# Altium footprint library SWTPcbLib1.PcbLib: 17 footprints (part 1 of 2)
Each footprint in its own frame and in the unit in brackets; x right, y up, seen from the top. Pads: shape width x height; smd on the part's side, far side on the other; paste and mask are expansions set on the pad; w line width, h text height; cw(c..) or ccw(c..) is an arc to the next point about the centre after c.
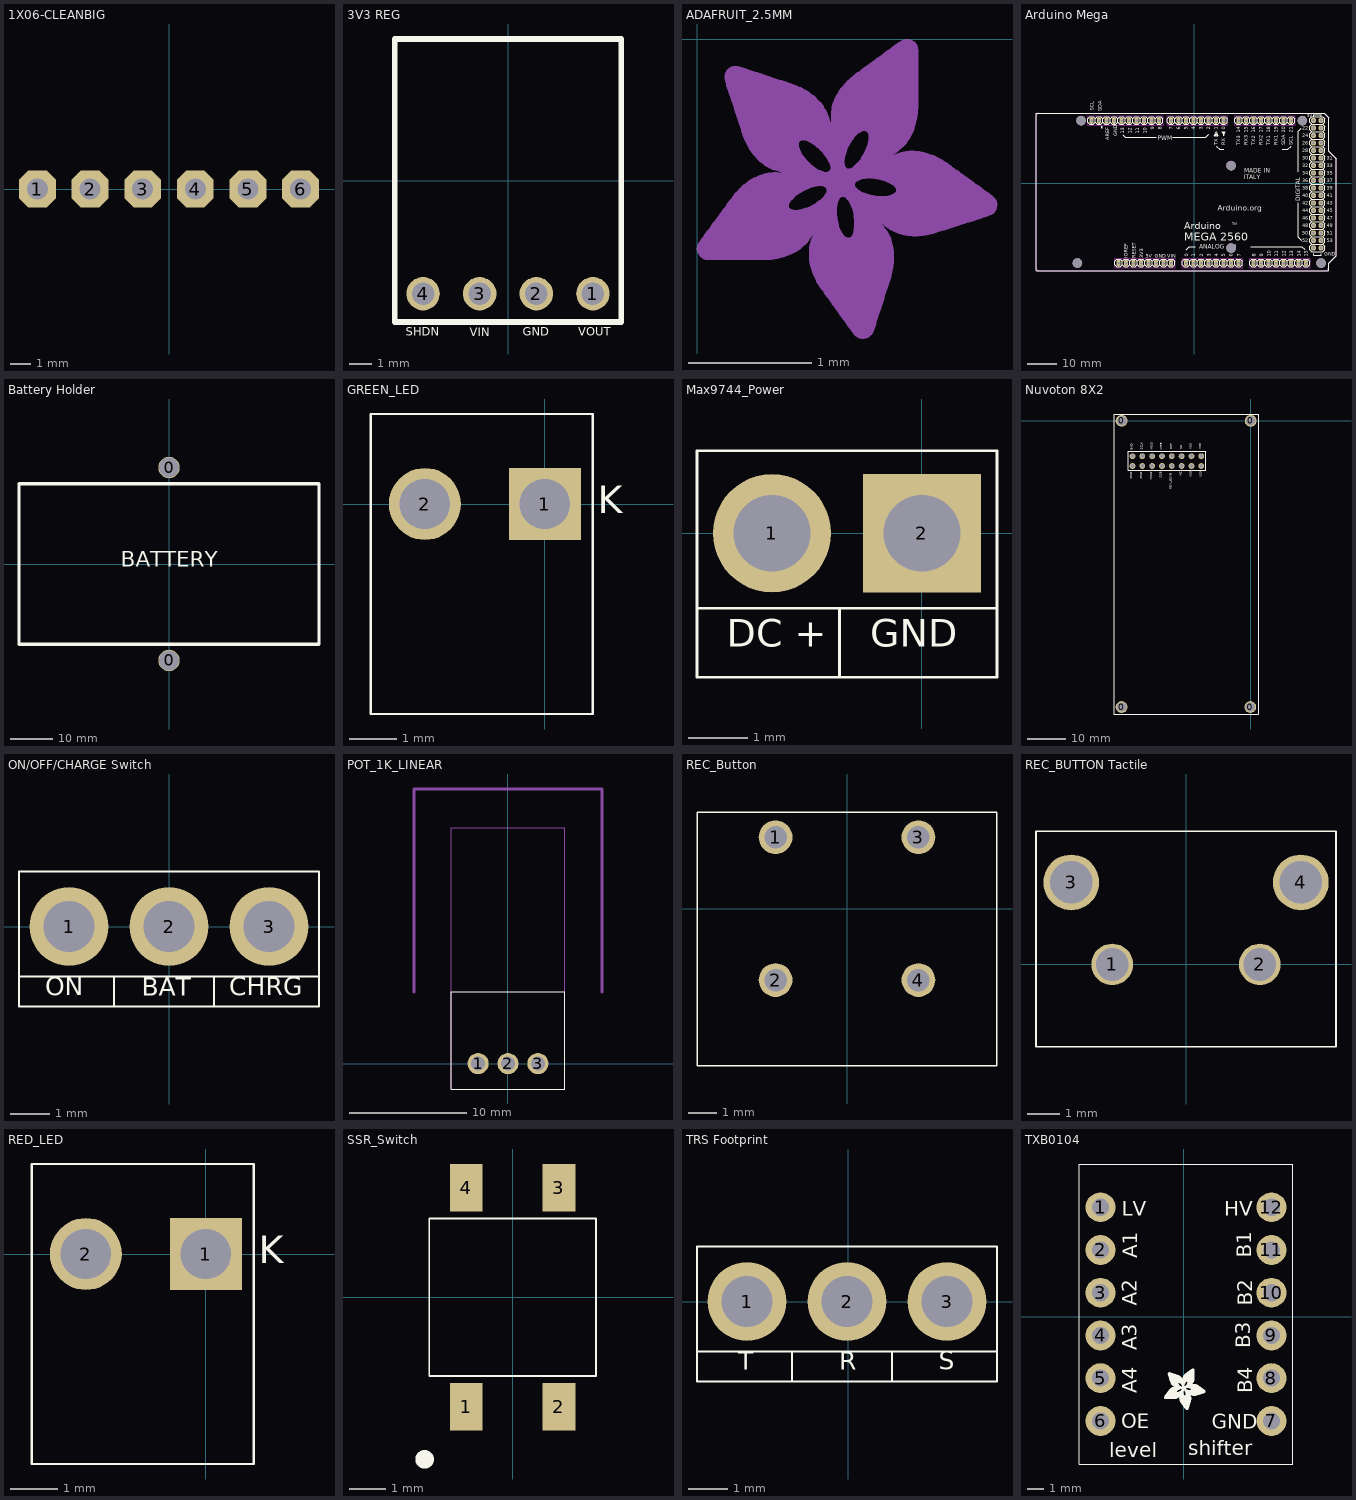
[diagram p0: the footprints below, top view; thin cyan lines are the x and y axes]

## 1X06-CLEANBIG [mil] "1X06-CLEANBIG"
pads (6):
  oct 70x70 / inner round 64.67 / far side oct 70x70 hole 40: 1(-250,0) 2(-150,0) 3(-50,0) 4(50,0) 5(150,0) 6(250,0)
Mechanical 3:
  region: 240,-10 240,10 260,10 260,-10
  region: -260,-10 -260,10 -240,10 -240,-10
  region: -160,-10 -160,10 -140,10 -140,-10
  region: -60,-10 -60,10 -40,10 -40,-10
  region: 40,-10 40,10 60,10 60,-10
  region: 140,-10 140,10 160,10 160,-10

## 3V3 REG [mm] "Pololu 3V3 Regulator 600mA"
pads (4):
  round 1.5 hole 1.016: 1(3.81,-5.08) 2(1.27,-5.08) 3(-1.27,-5.08) 4(-3.81,-5.08)
Top Overlay:
  lines w0.254: -5.08,-6.35 5.08,-6.35 5.08,6.35 -5.08,6.35 -5.08,0 -5.08,-6.35
  text "VOUT" at 3.156,-7.105 h0.64
  text "VIN" at -1.718,-7.112 h0.64
  text "GND" at 0.67,-7.105 h0.64
  text "SHDN" at -4.577,-7.105 h0.64
3D body "step-down-voltage-regulator-d24v3fx-d24v6fx-d36v6fx.step": height 2.82, standoff 0, extent -5.08,-6.35 5.08,6.35

## ADAFRUIT_2.5MM [mil] "ADAFRUIT_2.5MM"
Mechanical 8:
  drawing of 1191 lines, arcs and shapes, not listed

## Arduino Mega [mil] "Mega 2650"
pads (92):
  oval 56x89.6 hole 33.46: 1(-1008.99,-1064.5) 2(-908.99,-1064.5) 3(-708.99,-1064.5) 4(-608.99,-1064.5) 5(-508.99,-1064.5) 6(-408.99,-1064.5) 7(-308.99,-1064.5) 8(-108.99,-1064.5) 9(-8.99,-1064.5) 10(91.01,-1064.5) 11(191.01,-1064.5) 12(291.01,-1064.5) 13(391.01,-1064.5) 14(491.01,-1064.5) 15(591.01,-1064.5) 16(791.01,-1064.5) 17(891.01,-1064.5) 18(991.01,-1064.5) 19(1091.01,-1064.5) 20(1191.01,-1064.5) 21(1291.01,-1064.5) 22(1391.01,-1064.5) 23(1491.01,-1064.5) 24(-1368.99,835.5) 25(-1268.99,835.5) 26(-1168.99,835.5) 27(-968.99,835.5) 28(-868.99,835.5) 29(-768.99,835.5) 30(-668.99,835.5) 31(-568.99,835.5) 32(-468.99,835.5) 33(-308.99,835.5) 34(-208.99,835.5) 35(-108.99,835.5) 36(-8.99,835.5) 37(91.01,835.5) 38(191.01,835.5) 39(291.01,835.5) 40(391.01,835.5) 41(591.01,835.5) 42(691.01,835.5) 43(791.01,835.5) 44(891.01,835.5) 45(991.01,835.5) 46(1091.01,835.5) 47(1191.01,835.5) 48(1291.01,835.5) 85(-808.99,-1064.5) 86(-1068.99,835.5)
  oct 66x66 / inner round 60.98 / far side oct 66x66 hole 37.4: 49(1691.01,835.5) 50(1591.01,835.5) 51(1691.01,735.5) 52(1591.01,735.5) 53(1691.01,635.5) 54(1591.01,635.5) 55(1691.01,535.5) 56(1591.01,535.5) 57(1691.01,435.5) 58(1591.01,435.5) 59(1691.01,335.5) 60(1591.01,335.5) 61(1691.01,235.5) 62(1591.01,235.5) 63(1691.01,135.5) 64(1591.01,135.5) 65(1691.01,35.5) 66(1591.01,35.5) 67(1691.01,-64.5) 68(1591.01,-64.5) 69(1691.01,-164.5) 70(1591.01,-164.5) 71(1691.01,-264.5) 72(1591.01,-264.5) 73(1691.01,-364.5) 74(1591.01,-364.5) 75(1691.01,-464.5) 76(1591.01,-464.5) 77(1691.01,-564.5) 78(1591.01,-564.5) 79(1691.01,-664.5) 80(1591.01,-664.5) 81(1691.01,-764.5) 82(1591.01,-764.5) 83(1691.01,-864.5) 84(1591.01,-864.5)
  round 125.98 hole 125.98 unplated: MH1(1691.01,-1064.5) MH2(-1508.99,835.5) MH3(1441.01,835.5) MH4(-1558.99,-1064.5) MH5(491.01,235.5) MH6(491.01,-864.5)
Top Layer keep-out:
  lines w1.97: -1422.93,772.51 -415.05,772.51 -415.05,898.49 -1422.93,898.49 -1422.93,772.51 ; -1063.32,-1126.31 -254.66,-1127.49 -254.66,-1001.51 -1063.32,-1000.33 -1063.32,-1126.31 ; -363.32,772.51 445.34,771.33 445.34,897.31 -363.32,898.49 -363.32,772.51 ; -163.32,-1126.31 645.34,-1127.49 645.34,-1001.51 -163.32,-1000.33 -163.32,-1126.31 ; 536.68,772.51 1345.34,771.33 1345.34,897.31 536.68,898.49 536.68,772.51 ; 736.68,-1126.31 1545.34,-1127.49 1545.34,-1001.51 736.68,-1000.33 736.68,-1126.31
Top Overlay:
  drawing of 533 lines, arcs and shapes, not listed
  text "Arduino.org" at 311.01,-364.5 h73.1
  text "1" at 316.01,710.5 h47.6
  text "17" at 916.01,675.5 h47.6
  text "4" at 321.01,-979.5 h47.6
  text "9" at 921.01,-979.5 h47.6
  text "10" at -633.99,660.5 h47.6
  text "1" at 11.01,-979.5 h47.6
  text "39" at 1766.01,-89.5 h47.6
  text "38" at 1441.01,-89.5 h47.6
  text "50" at 1441.01,-689.5 h47.6
  text "35" at 1766.01,110.5 h47.6
  text "33" at 1766.01,210.5 h47.6
  text "43" at 1766.01,-289.5 h47.6
  text "47" at 1766.01,-489.5 h47.6
  text "49" at 1766.01,-589.5 h47.6
  text "22" at 1441.01,710.5 h47.6
  text "24" at 1441.01,610.5 h47.6
  text "21" at 1316.01,675.5 h47.6
  text "26" at 1441.01,510.5 h47.6
  text "30" at 1441.01,310.5 h47.6
  text "34" at 1441.01,110.5 h47.6
  text "32" at 1441.01,210.5 h47.6
  text "42" at 1441.01,-289.5 h47.6
  text "40" at 1441.01,-189.5 h47.6
  text "46" at 1441.01,-489.5 h47.6
  text "48" at 1441.01,-589.5 h47.6
  text "15" at 1516.01,-979.5 h47.6
  text "13" at 1321.01,-979.5 h47.6
  text "20" at 1216.01,675.5 h47.6
  text "19" at 1116.01,675.5 h47.6
  text "12" at 1221.01,-979.5 h47.6
  text "11" at 1121.01,-979.5 h47.6
  text "16" at 816.01,675.5 h47.6
  text "15" at 716.01,675.5 h47.6
  text "8" at 821.01,-979.5 h47.6
  text "0" at 416.01,710.5 h47.6
  text "TM" at 506.01,-559.5 h34
  text "5" at 416.01,-979.5 h47.6
  text "6" at 516.01,-979.5 h47.6
  text "4" at 16.01,710.5 h47.6
  text "3" at 116.01,710.5 h47.6
  text "2" at 121.01,-979.5 h47.6
  text "5" at -83.99,710.5 h47.6
  text "7" at -283.99,710.5 h47.6
  text "0" at -78.99,-979.5 h47.6
  text "8" at -433.99,710.5 h47.6
  text "9" at -533.99,710.5 h47.6
  text "12" at -833.99,660.5 h47.6
  text "13" at -933.99,660.5 h47.6
  text "37" at 1766.01,10.5 h47.6
  text "45" at 1766.01,-389.5 h47.6
  text "53" at 1766.01,-789.5 h47.6
  text "28" at 1441.01,410.5 h47.6
  text "36" at 1441.01,10.5 h47.6
  text "44" at 1441.01,-389.5 h47.6
  text "52" at 1441.01,-789.5 h47.6
  text "51" at 1766.01,-689.5 h47.6
  text "31" at 1766.01,310.5 h47.6
  text "41" at 1766.01,-189.5 h47.6
  text "14" at 1421.01,-979.5 h47.6
  text "18" at 1016.01,675.5 h47.6
  text "10" at 1021.01,-979.5 h47.6
  text "14" at 616.01,675.5 h47.6
  text "7" at 621.01,-979.5 h47.6
  text "2" at 216.01,710.5 h47.6
  text "3" at 221.01,-979.5 h47.6
  text "6" at -183.99,710.5 h47.6
  text "11" at -733.99,660.5 h47.6
  text "SCL" at -1338.16,963.98 h47.6
  text "SDA" at -1236.16,960.98 h47.6
  text "IOREF" at -885.16,-997.02 h47.6
  text "MEGA 2560" at -133.99,-764.5 h106.25
  text "DIGITAL" at 1416.01,-239.5 h56.1
  text "GND" at 1731.01,-964.5 h47.6
  text "5V" at 1508.7,883.11 h37.4
  text "PWM" at -483.99,575.5 h56.1
  text "ITALY" at 663.01,51.5 h59.5
  text "MADE IN" at 667.01,137.5 h59.5
  text "TX1" at 1016.01,505.5 h47.6
  text "RX1" at 1116.01,505.5 h47.6
  text "TX3" at 616.01,505.5 h47.6
  text "RX3" at 716.01,505.5 h47.6
  text "RX2" at 916.01,505.5 h47.6
  text "TX2" at 816.01,505.5 h47.6
  text "SCL" at 1316.01,505.5 h47.6
  text "SDA" at 1216.01,505.5 h47.6
  text "GND" at -529.51,-996.33 h47.6
  text "VIN" at -357.51,-996.33 h47.6
  text "5V" at -649.51,-996.33 h47.6
  text "3V3" at -680.16,-997.02 h47.6
  text "RESET" at -780.16,-997.02 h47.6
  text "Arduino" at -133.99,-614.5 h93.5
  text "RX" at 416.01,505.5 h47.6
  text "TX" at 316.01,505.5 h47.6
  text "GND" at -1029.74,625.98 h47.6
  text "AREF" at -1135.16,574.98 h47.6
  text "ANALOG   IN" at 66.01,-874.5 h56.1
Keep-Out Layer:
  drawing of 6 lines, arcs and shapes, not listed
Dimensions:
  lines w10: -2110,-1125.63 ccw(c-2070.63,-1125.63) -2070.63,-1165 1750.63,-1165 ccw(c1750.63,-1125.63) 1790,-1125.63 1790,-1065 1890,-965 1890,325 1790,425 1790,875 1730,935 -2070.63,935 ccw(c-2070.63,895.63) -2110,895.63 -2110,-1125.63
Mechanical 3:
  region: -1018.99,-1074.5 -1018.99,-1054.5 -998.99,-1054.5 -998.99,-1074.5
  region: 281.01,-1074.5 281.01,-1054.5 301.01,-1054.5 301.01,-1074.5
  region: 301.01,845.5 301.01,825.5 281.01,825.5 281.01,845.5

## Battery Holder [mil] "BH1 Tenergy 7.2V 31003"
pads (2):
  round 200 hole 185: 0(0,-900) 0(0,900)
Top Overlay:
  lines w30: -1400,-750 1400,-750 1400,750 -1400,750 -1400,-750
  text "BATTERY" at -452.14,-75 h250

## GREEN_LED [mil] "GREEN LED"
pads (2):
  rect 60x60 hole 42: 1(0,0)
  round 60 hole 42: 2(-100,0)
Top Overlay:
  lines w1.97: -145,-175 40,-175 40,75 -145,75 -145,-175
  text "K" at 44.18,-15 h39.37
3D body "P00404_5510207F_Dialight LED.STEP": height 280.5, standoff -124.5, extent -140,-272.5 35,72.5

## Max9744_Power [mm] "Header for power connection"
pads (2):
  round 2 hole 1.3: 1(-2.54,0)
  rect 2x2 hole 1.3: 2(0,0)
Top Overlay:
  lines w0.05: -1.397,-2.438 -1.397,-1.27 ; -3.81,-1.27 -3.81,-1.803 -3.81,-2.438 1.27,-2.438 1.27,-1.27 ; -3.81,-1.27 -3.81,1.397 1.27,1.397 1.27,-1.27 ; -3.81,-1.27 1.27,-1.27
  text "GND" at -0.877,-2.074 h0.8
  text "DC +" at -3.304,-2.074 h0.8

## Nuvoton 8X2 [mil]
pads (20):
  round 120 hole 96: 0(-1314,-2912) 0(-1314,1) 0(-4,-2912) 0(0,0)
  round 59.06 hole 40: 1(-1203,-459) 2(-1103,-459) 3(-1003,-459) 4(-903,-459) 5(-803,-459) 6(-703,-459) 7(-603,-459) 8(-503,-459) 9(-1203,-359) 10(-1103,-359) 11(-1003,-359) 12(-903,-359) 13(-803,-359) 14(-703,-359) 15(-603,-359) 16(-503,-359)
Top Overlay:
  lines w1.97: -1395,70 -1395,-2983 78,-2983 78,70 -1394,70 ; -1248,-504 -458,-504 -458,-309 -1248,-309 -1248,-504
  text "V33" at -493.44,-289.9 h39.37
  text "V33" at -588.44,-289.9 h39.37
  text "NC" at -688.44,-290.74 h39.37
  text "RST" at -788.44,-290.9 h39.37
  text "INTB" at -888,-294.06 h39.37
  text "MOSI" at -988.44,-293.19 h39.37
  text "SCLK" at -1088.44,-294.27 h39.37
  text "GND" at -1193.44,-588.47 h39.37
  text "GND" at -1093.44,-588.47 h39.37
  text "MISO" at -993.44,-599.79 h39.37
  text "SSB" at -893.44,-580.98 h39.37
  text "RDY_BSYB" at -794.99,-697.16 h39.37
  text "NC" at -693.44,-560.74 h39.37
  text "V33" at -588.44,-574.9 h39.37
  text "V33" at -488.44,-574.9 h39.37
  text "GND" at -1188.44,-298.47 h39.37
3D body "P00404_ISD-DMK_15100.STEP": height 163, standoff -239.5, extent -1392.5,-2982 76.5,68

## ON/OFF/CHARGE Switch [mm] "ON/OFF/CHARGE Switch"
pads (3):
  round 2 hole 1.3: 1(-2.54,0) 2(0,0) 3(2.54,0)
Top Overlay:
  lines w0.05: -1.397,-1.27 -1.397,-2.032 1.143,-2.032 1.143,-1.27 ; -3.81,-1.27 -3.81,-2.032 3.81,-2.032 3.81,-1.27 ; -3.81,-1.27 3.81,-1.27 ; -3.81,-1.27 -3.81,1.397 3.81,1.397 3.81,-1.27
  text "CHRG" at 1.532,-1.896 h0.8
  text "BAT" at -0.688,-1.905 h0.8
  text "ON" at -3.138,-1.896 h0.8

## POT_1K_LINEAR [mm] "1K Potentiometer Linear"
pads (3):
  round 1.8 hole 1.2: 1(-2.54,0) 2(0,0) 3(2.54,0)
Top Overlay:
  lines w0.05: -4.826,-2.159 4.826,-2.159 4.826,6.096 -4.826,6.096 -4.826,-2.159
Mechanical 3:
  lines w0.05: -4.826,-2.159 4.826,-2.159 4.826,20.066 -4.826,20.066 -4.826,-2.159
Mechanical 22:
  lines w0.254: -8.001,6.096 -8.001,23.368 8.001,23.368 8.001,6.096
  text "Knob Outline" at -5.726,21.819 h1.91
3D body "ptd901-xx15k-xxxx.stp": height 11.16, standoff -3.69, extent -4.8,-2.132 4.8,20.018

## REC_Button [mm]
pads (4):
  round 1.2 hole 0.8: 1(-2.54,2.54) 2(-2.54,-2.54) 3(2.54,2.54) 4(2.54,-2.54)
Top Overlay:
  lines w0.05: -5.334,-5.588 5.334,-5.588 5.334,3.429 -5.334,3.429 -5.334,-5.588
3D body "AB11AH-HC.stp": height 6.6, standoff -3.57, extent -4.902,-17.653 4.902,2.819

## REC_BUTTON Tactile [mm] "Tactile Switch"
pads (4):
  round 1.27 hole 1: 1(-2.25,0) 2(2.25,0)
  round 1.7 hole 1.3: 3(-3.5,2.5) 4(3.5,2.5)
Top Overlay:
  lines w0.05: -4.575,4.064 -4.575,-2.515 4.572,-2.515 4.572,4.064 -4.572,4.064
3D body "TL1105JAFxxxx.stp": height 7.31, standoff -3.69, extent -4.173,-6.355 4.224,3.999

## RED_LED [mil] "RED LED"
pads (2):
  rect 60x60 hole 42: 1(0,0)
  round 60 hole 42: 2(-100,0)
Top Overlay:
  lines w1.97: -145,-175 40,-175 40,75 -145,75 -145,-175
  text "K" at 44.18,-15 h39.37
3D body "P00404_5510207F_Dialight LED.STEP": height 280.5, standoff -124.5, extent -140,-272.5 35,72.5

## SSR_Switch [mm] "Solid State Relay"
pads (4):
  rect 0.9x1.3 smd: 1(-1.27,-3) 2(1.27,-3) 3(1.27,3) 4(-1.27,3)
Top Overlay:
  circle w0.254: c-2.413,-4.445 r0.127
  lines w0.05: -2.286,-2.159 -2.159,-2.159 2.286,-2.159 2.286,2.159 -2.159,2.159 -2.286,2.159 -2.286,-2.159
3D body "User Library-AQY280S.STEP": height 2.1, standoff 0, extent -2.15,-3.4 2.15,3.4

## TRS Footprint [mm] "TRS Headphone connections"
pads (3):
  round 2 hole 1.3: 1(-2.565,0) 2(-0.025,0) 3(2.515,0)
Top Overlay:
  lines w0.05: -1.422,-1.27 -1.422,-2.032 1.118,-2.032 1.118,-1.27 ; -3.835,-1.27 -3.835,1.397 3.785,1.397 3.785,-1.27 ; -3.835,-1.27 3.785,-1.27 ; -3.835,-1.27 -3.835,-2.032 3.785,-2.032 3.785,-1.27
  text "T" at -2.793,-1.88 h0.8
  text "R" at -0.221,-1.88 h0.8
  text "S" at 2.311,-1.871 h0.8

## TXB0104 [mil] "Logic Level Shifter"
pads (12):
  round 70 hole 40: 1(-194.54,256.79) 2(-194.54,156.79) 3(-194.54,56.79) 4(-194.54,-43.21) 5(-194.54,-143.21) 6(-194.54,-243.21) 7(205.46,-243.21) 8(205.46,-143.21) 9(205.46,-43.21) 10(205.46,56.79) 11(205.46,156.79) 12(205.46,256.79)
Top Overlay:
  drawing of 1195 lines, arcs and shapes, not listed
  text "LV" at -145,237 h34
  text "A1" at -109,137 h34
  text "A2" at -109.54,26.79 h34
  text "A3" at -109.54,-78.21 h34
  text "A4" at -109.54,-178.21 h34
  text "OE" at -146,-260 h34
  text "level" at -174.54,-328.21 h34
  text "shifter" at 10.46,-323.21 h34
  text "GND" at 66,-261 h34
  text "B4" at 160.46,-178.21 h34
  text "B3" at 155.46,-73.21 h34
  text "B2" at 160.46,26.79 h34
  text "B1" at 158,139 h34
  text "HV" at 95,237 h34